# Altium footprint library Реле.PcbLib: 8 footprints
Each footprint in its own frame and in the unit in brackets; x right, y up, seen from the top. Pads: shape width x height; smd on the part's side, far side on the other; paste and mask are expansions set on the pad; w line width, h text height; cw(c..) or ccw(c..) is an arc to the next point about the centre after c.
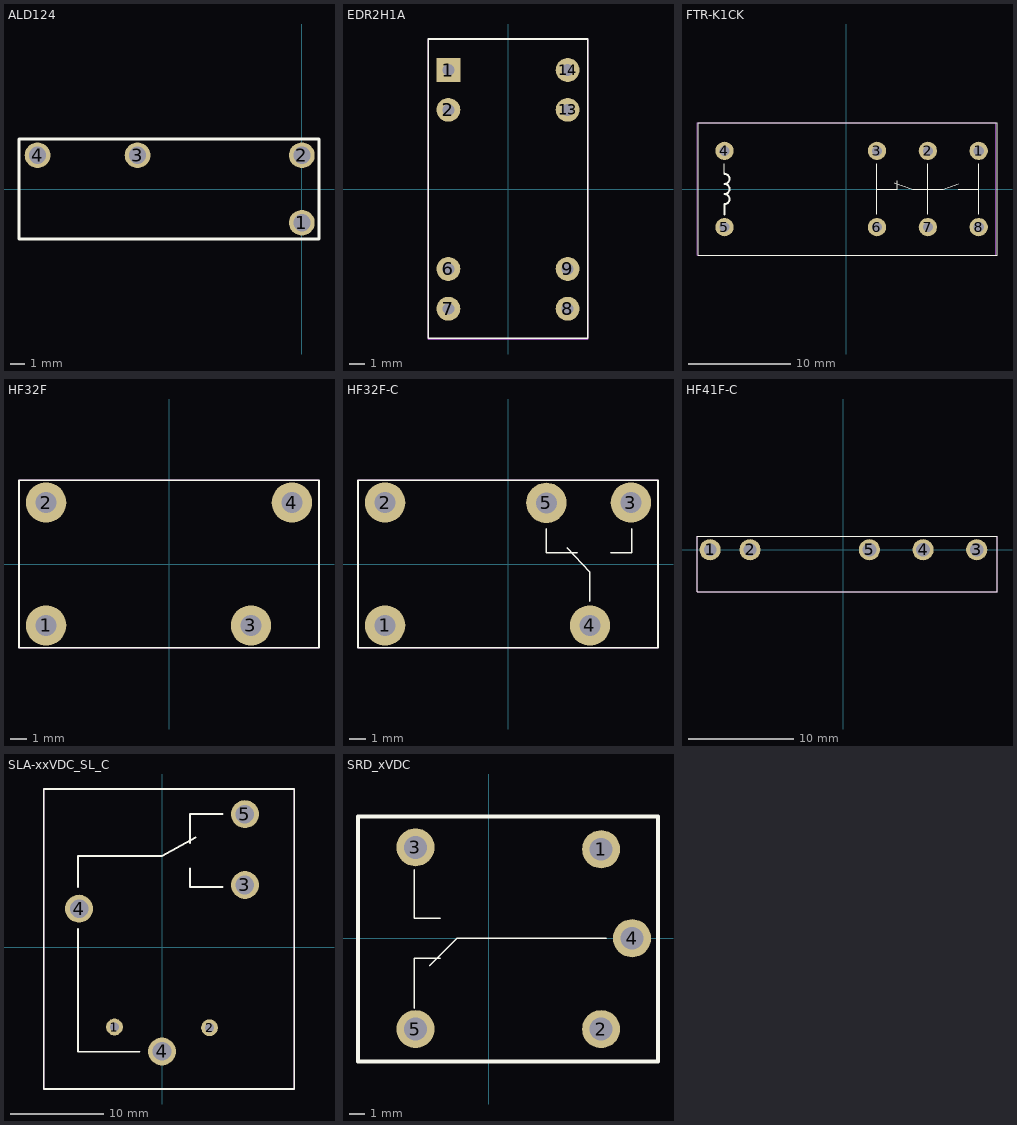
[diagram p0: the footprints below, top view; thin cyan lines are the x and y axes]

## ALD124 [mm]
pads (4):
  round 1.8 hole 1.2: 1(0,-2.36) 2(0,2.36) 3(-11.5,2.36) 4(-18.5,2.36)
Top Overlay:
  lines w0.2: -19.8,-3.5 1.2,-3.5 1.2,3.5 -19.8,3.5 -19.8,-3.5

## EDR2H1A [mil]
pads (8):
  rect 60x60 hole 30: 1(-150,300)
  round 60 hole 30: 2(-150,200) 6(-150,-200) 7(-150,-300) 8(150,-300) 9(150,-200) 13(150,200) 14(150,300)
Top Overlay:
  lines w3.94: -200,-374.02 -200,377.95 200,377.95 200,-374.02 -200,-374.02
TopAssy:
  lines w3.94: -200,-376.01 200,-376.01 200,377.95 -200,377.95 -200,-376.01
  text ".Designator" at -100,-50 h39.37
3D body "ERD2H.STEP": height 177.56, standoff -97.24, extent -157.48,-376.01 157.49,376.01

## FTR-K1CK [mm]
pads (8):
  round 1.8 hole 1: 1(13,3.75) 2(8,3.75) 3(3,3.75) 4(-12,3.75) 5(-12,-3.75) 6(3,-3.75) 7(8,-3.75) 8(13,-3.75)
Top Overlay:
  lines w0.1: -12,1.5 -12,2.5 ; 3,-2.5 3,2.5 ; 3,0 5,0 5,0.8 ; 4.7,0.6 6.5,0 8,0 9.5,0 11,0.5 ; 8,-2.5 8,2.5 ; 11,0 13,0 ; 13,-2.5 13,2.5 ; -14.6,-6.5 14.8,-6.5 14.8,6.5 -14.6,6.5 -14.6,-6.5
  lines w0.2: -12,-2.5 -12,-1.5 ccw(c-12,-1) -12,-0.5 ccw(c-12,0) -12,0.5 ccw(c-12,1) -12,1.5
TopAssy:
  lines w0.1: -14.7,-6.5 -14.7,6.5 14.7,6.5 14.7,-6.5 -14.7,-6.5
  text ".Designator" at -2.54,-1.27 h1
3D body "ftr-k1ck012w.step": height 16, standoff -3.3, extent -14.65,-6.5 14.65,6.5

## HF32F [mm]
pads (4):
  round 2.5 hole 1.3: 1(-7.62,-3.81) 2(-7.62,3.81) 3(5.08,-3.81) 4(7.62,3.81)
Top Overlay:
  lines w0.1: -9.3,-5.2 -9.3,5.2 9.3,5.2 9.3,-5.2 -9.3,-5.2
TopAssy:
  lines w0.1: -9.3,-5.2 9.3,-5.2 9.3,5.2 -9.3,5.2 -9.3,-5.2
  text ".Designator" at -2.9,-0.4 h1.52
3D body "HF32F-G.STEP": height 16, standoff -3, extent -9.197,-5.109 9.203,5.091

## HF32F-С [mm]
pads (5):
  round 2.5 hole 1.3: 1(-7.62,-3.81) 2(-7.62,3.81) 3(7.62,3.81) 4(5.08,-3.81) 5(2.38,3.79)
Top Overlay:
  lines w0.1: 2.38,2.19 2.38,0.69 4.28,0.69 ; 3.68,0.99 5.08,-0.51 5.08,-2.31 ; 6.38,0.69 7.68,0.69 7.68,2.19 ; -9.3,-5.2 9.3,-5.2 9.3,5.2 -9.3,5.2 -9.3,-5.2
TopAssy:
  lines w0.1: -9.3,-5.2 -9.3,5.2 9.3,5.2 9.3,-5.2 -9.3,-5.2
  text ".Designator" at -2.9,-0.4 h1.52
3D body "HF32F-G.STEP": height 16, standoff -3, extent -9.197,-5.109 9.203,5.091

## HF41F-C [mm]
pads (5):
  round 2 hole 1.2: 1(-12.62,0) 2(-8.84,0)
  round 2 hole 1.3: 3(12.62,0) 4(7.54,0) 5(2.46,0)
Top Overlay:
  lines w0.1: -13.86,-4 14.54,-4 14.54,1.3 -13.86,1.3 -13.86,-4
TopAssy:
  lines w0.1: -13.86,-4 -13.86,1.3 14.54,1.3 14.54,-4 -13.86,-4
  text ".Designator" at -6.96,-1.5 h1.52
3D body "HF41F.step": height 14.5, standoff -4, extent -13.56,-3.9 14.44,1.2

## SLA-xxVDC_SL_C [mm]
pads (6):
  round 1.8 hole 1: 1(-5.1,-8.55) 2(5.1,-8.625)
  round 3 hole 2: 3(8.9,6.7) 4(-8.9,4.15) 4(0,-11.165) 5(8.9,14.3)
Top Overlay:
  lines w0.2: -9,2 -9,-11.2 -2.4,-11.2 ; -9,6.5 -9,9.8 0,9.8 3.6,11.8 ; 3,8.5 3,6.5 6.5,6.5 ; 3,11.2 3,14.3 6.5,14.3 ; -12.7,-15.2 -12.7,17 14.2,17 14.2,-15.2 -12.7,-15.2
TopAssy:
  lines w0.2: -12.7,-15.2 14.2,-15.2 14.2,17 -12.7,17 -12.7,-15.2
  text ".Designator" at -1.7,-3.1 h1.52
3D body "SLA-xxVDC-SL-C.STEP": height 20.4, standoff -3.2, extent -12.575,-15.087 14.125,16.913

## SRD_xVDC [mm]
pads (5):
  round 2.5 hole 1.5: 1(7.366,5.842) 2(7.366,-5.969) 3(-4.826,5.969) 4(9.398,0) 5(-4.826,-5.969)
Top Overlay:
  lines w0.1: -4.9,-4.6 -4.9,-1.3 -3.2,-1.3 ; -4.9,4.5 -4.9,1.3 -3.2,1.3 ; -3.9,-1.8 -2.1,0 7.7,0
  lines w0.254: -8.6,-8.1 -8.6,8 11.1,8 11.1,-8.1 -8.6,-8.1
TopAssy:
  lines w0.2: -8.6,-8.1 -8.6,8 11.1,8 11.1,-8.1 -8.6,-8.1
  text ".Designator" at -0.4,1.2 h1.52
3D body "SRD.STEP": height 16.6, standoff -3.7, extent -8.307,-7.788 10.793,7.712